# Altium footprint library YoussifLIB.PcbLib: 17 footprints (part 2 of 2)
Each footprint in its own frame and in the unit in brackets; x right, y up, seen from the top. Pads: shape width x height; smd on the part's side, far side on the other; paste and mask are expansions set on the pad; w line width, h text height; cw(c..) or ccw(c..) is an arc to the next point about the centre after c.
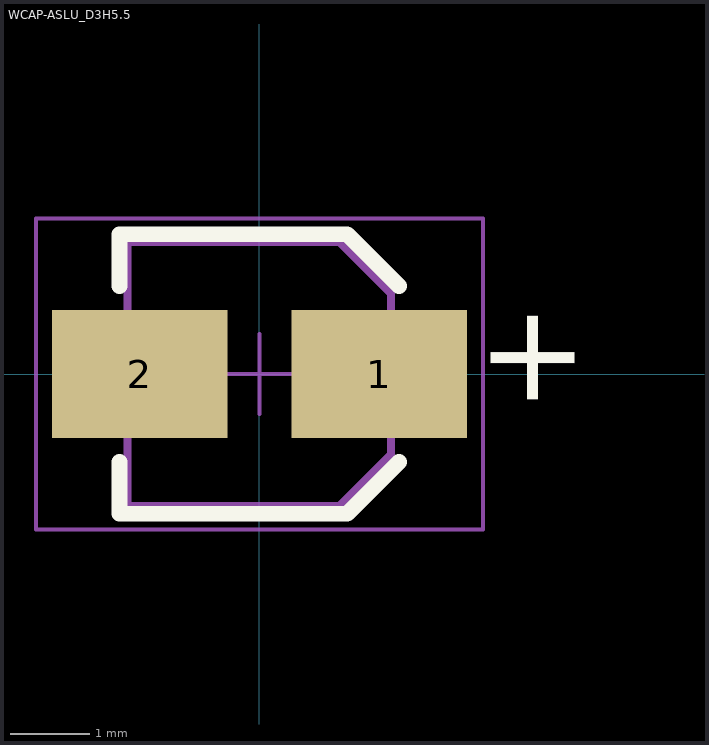
[diagram p1: the footprint, top view; thin cyan lines are the x and y axes]

## WCAP-ASLU_D3H5.5 [mm] "Aluminum Electrolytic Capacitors, body diameter 3mm"
height 5.5
pads (2):
  rect 2.2x1.6 smd: 1(1.5,0) 2(-1.5,0)
Top Overlay:
  lines w0.2: -1.75,-1.1 -1.75,-1.75 1.1,-1.75 1.75,-1.1 ; -1.75,1.1 -1.75,1.75 1.1,1.75 1.75,1.1
  text "+" at 3.95,-0.5 h1.22
Top 3D Body:
  lines w0.1: -1.65,-1.65 1,-1.65 1.65,-1 1.65,1 1,1.65 -1.65,1.65 -1.65,-1.65
Top Courtyard:
  lines w0.05: -0.5,0 0.5,0 ; 0,-0.5 0,0.5 ; -2.8,-1.95 2.8,-1.95 2.8,1.95 -2.8,1.95 -2.8,-1.95
Top Designator:
  text ".Designator" at -3.999,-0.267 h0.8
Top Component Outline:
  lines w0.1: -1.65,-1.65 1,-1.65 1.65,-1 1.65,1 1,1.65 -1.65,1.65 -1.65,-1.65
3D body "3x5.5x0.8.stp": height 5.5, standoff 0, extent -1.9,-1.65 1.9,1.65